# EAGLE library part BG96MA (library BG96MA)
LTE Module Source: Datasheet <http://www.quectel.com/product/bg96.htm>
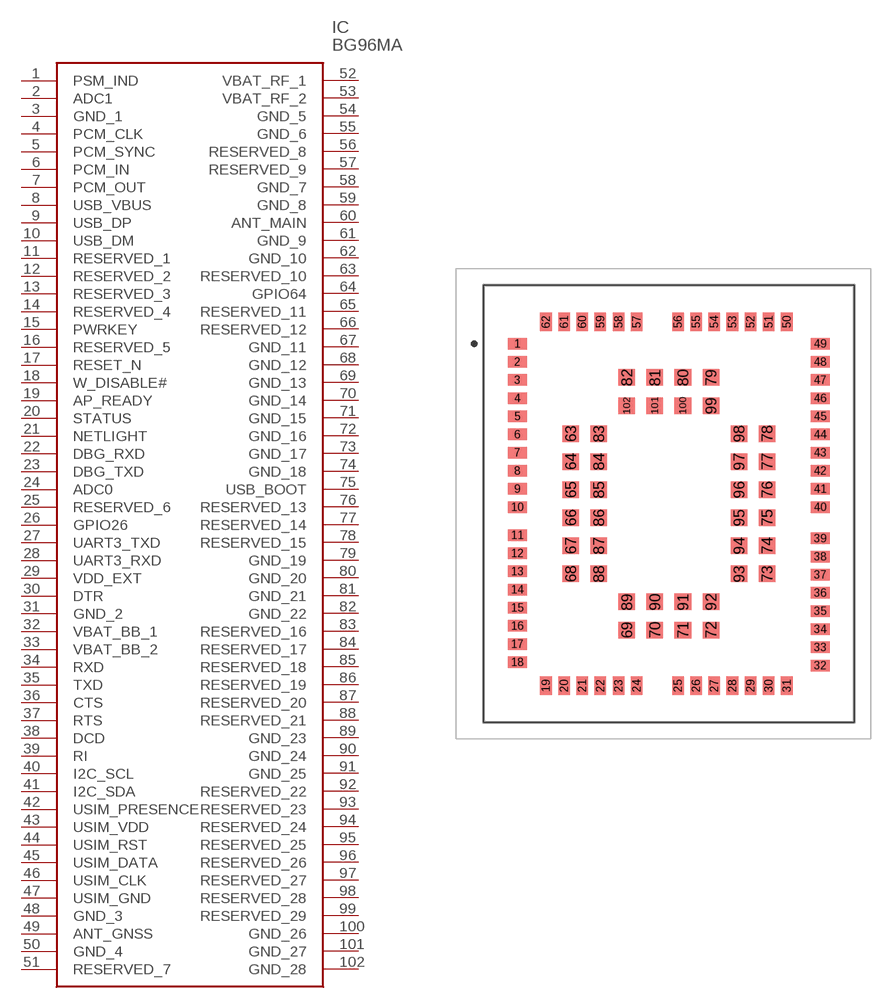
[diagram p0: symbol with the pads of BG96MA; footprint BG96MA]

Designator prefix IC

## BG96MA (Description: LTE Module; Height: 2mm; Manufacturer_Name: Quectel; Manufacturer_Part_Number: BG96MA)  [BG96MA]
1  PSM_IND
2  ADC1
3  GND_1
4  PCM_CLK
5  PCM_SYNC
6  PCM_IN
7  PCM_OUT
8  USB_VBUS
9  USB_DP
10  USB_DM
11  RESERVED_1
12  RESERVED_2
13  RESERVED_3
14  RESERVED_4
15  PWRKEY
16  RESERVED_5
17  RESET_N
18  W_DISABLE#
19  AP_READY
20  STATUS
21  NETLIGHT
22  DBG_RXD
23  DBG_TXD
24  ADC0
25  RESERVED_6
26  GPIO26
27  UART3_TXD
28  UART3_RXD
29  VDD_EXT
30  DTR
31  GND_2
32  VBAT_BB_1
33  VBAT_BB_2
34  RXD
35  TXD
36  CTS
37  RTS
38  DCD
39  RI
40  I2C_SCL
41  I2C_SDA
42  USIM_PRESENCE
43  USIM_VDD
44  USIM_RST
45  USIM_DATA
46  USIM_CLK
47  USIM_GND
48  GND_3
49  ANT_GNSS
50  GND_4
51  RESERVED_7
52  VBAT_RF_1
53  VBAT_RF_2
54  GND_5
55  GND_6
56  RESERVED_8
57  RESERVED_9
58  GND_7
59  GND_8
60  ANT_MAIN
61  GND_9
62  GND_10
63  RESERVED_10
64  GPIO64
65  RESERVED_11
66  RESERVED_12
67  GND_11
68  GND_12
69  GND_13
70  GND_14
71  GND_15
72  GND_16
73  GND_17
74  GND_18
75  USB_BOOT
76  RESERVED_13
77  RESERVED_14
78  RESERVED_15
79  GND_19
80  GND_20
81  GND_21
82  GND_22
83  RESERVED_16
84  RESERVED_17
85  RESERVED_18
86  RESERVED_19
87  RESERVED_20
88  RESERVED_21
89  GND_23
90  GND_24
91  GND_25
92  RESERVED_22
93  RESERVED_23
94  RESERVED_24
95  RESERVED_25
96  RESERVED_26
97  RESERVED_27
98  RESERVED_28
99  RESERVED_29
100  GND_26
101  GND_27
102  GND_28

## Footprint BG96MA (pad centres in mm)
BG96MA
smd 1.15 x 0.7: 1 -9.18,9.7; 2 -9.18,8.6; 3 -9.18,7.5; 4 -9.18,6.4; 5 -9.18,5.3; 6 -9.18,4.2; 7 -9.18,3.1; 8 -9.18,2; 9 -9.18,0.9; 10 -9.18,-0.2; 11 -9.18,-1.9; 12 -9.18,-3; 13 -9.18,-4.1; 14 -9.18,-5.2; 15 -9.18,-6.3; 16 -9.18,-7.4; 17 -9.18,-8.5; 18 -9.18,-9.6; 32 9.18,-9.8; 33 9.18,-8.7; 34 9.18,-7.6; 35 9.18,-6.5; 36 9.18,-5.4; 37 9.18,-4.3; 38 9.18,-3.2; 39 9.18,-2.1; 40 9.18,-0.2; 41 9.18,0.9; 42 9.18,2; 43 9.18,3.1; 44 9.18,4.2; 45 9.18,5.3; 46 9.18,6.4; 47 9.18,7.5; 48 9.18,8.6; 49 9.18,9.7
smd 0.7 x 1.15: 19 -7.45,-11.025; 20 -6.35,-11.025; 21 -5.25,-11.025; 22 -4.15,-11.025; 23 -3.05,-11.025; 24 -1.95,-11.025; 25 0.55,-11.025; 26 1.65,-11.025; 27 2.75,-11.025; 28 3.85,-11.025; 29 4.95,-11.025; 30 6.05,-11.025; 31 7.15,-11.025; 50 7.15,11.025; 51 6.05,11.025; 52 4.95,11.025; 53 3.85,11.025; 54 2.75,11.025; 55 1.65,11.025; 56 0.55,11.025; 57 -1.95,11.025; 58 -3.05,11.025; 59 -4.15,11.025; 60 -5.25,11.025; 61 -6.35,11.025; 62 -7.45,11.025
smd 1 x 1: 63 -5.95,4.25; 64 -5.95,2.55; 65 -5.95,0.85; 66 -5.95,-0.85; 67 -5.95,-2.55; 68 -5.95,-4.25; 69 -2.55,-7.65; 70 -0.85,-7.65; 71 0.85,-7.65; 72 2.55,-7.65; 73 5.95,-4.25; 74 5.95,-2.55; 75 5.95,-0.85; 76 5.95,0.85; 77 5.95,2.55; 78 5.95,4.25; 79 2.55,7.65; 80 0.85,7.65; 81 -0.85,7.65; 82 -2.55,7.65; 83 -4.25,4.25; 84 -4.25,2.55; 85 -4.25,0.85; 86 -4.25,-0.85; 87 -4.25,-2.55; 88 -4.25,-4.25; 89 -2.55,-5.95; 90 -0.85,-5.95; 91 0.85,-5.95; 92 2.55,-5.95; 93 4.25,-4.25; 94 4.25,-2.55; 95 4.25,-0.85; 96 4.25,0.85; 97 4.25,2.55; 98 4.25,4.25; 99 2.55,5.95; 100 0.85,5.95; 101 -0.85,5.95; 102 -2.55,5.95